# Altium footprint library SON.PcbLib: 1 footprints
Each footprint in its own frame and in the unit in brackets; x right, y up, seen from the top. Pads: shape width x height; smd on the part's side, far side on the other; paste and mask are expansions set on the pad; w line width, h text height; cw(c..) or ccw(c..) is an arc to the next point about the centre after c.
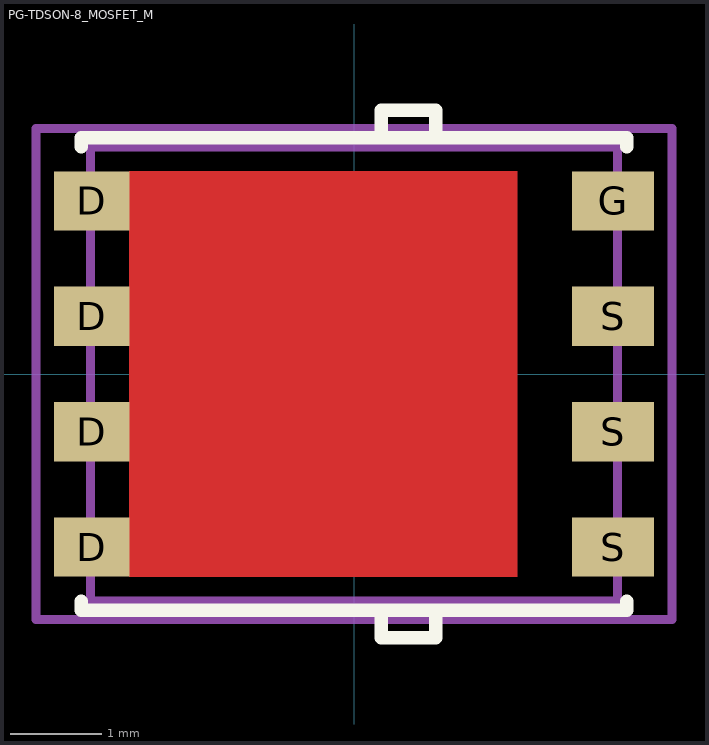
[diagram p0: the footprint, top view; thin cyan lines are the x and y axes]

## PG-TDSON-8_MOSFET_M [mm] "PG-TDSON, MOSFET terminals, 8-Leads, Body 5x5.8mm, Pitch 1.27mm, IPC Low Density"
height 1.1
pads (8):
  rect 0.83x0.65 smd: D(-2.885,-1.905) D(-2.885,-0.635) D(-2.885,0.635) D(-2.885,1.905)
  rect 0.9x0.65 smd: G(2.85,1.905) S(2.85,-1.905) S(2.85,-0.635) S(2.85,0.635)
Top Layer:
  region: 1.798,2.23 -2.472,2.23 -2.472,-2.23 1.798,-2.23
Top Overlay:
  lines w0.15: -3,-2.5 -3,-2.6 3,-2.6 3,-2.5 ; -3,2.5 -3,2.6 3,2.6 3,2.5 ; 0.3,-2.6 0.3,-2.9 0.9,-2.9 0.9,-2.6 ; 0.3,2.6 0.3,2.9 0.9,2.9 0.9,2.6
Top Paste:
  rectangle: 0.18,-1.88 1.415,-0.31
  rectangle: 0.18,0.31 1.415,1.88
  rectangle: -1.905,-1.88 -0.32,-0.31
  rectangle: -1.905,0.31 -0.32,1.88
Mechanical 13:
  lines w0.1: -2.9,-2.5 2.9,-2.5 2.9,2.5 -2.9,2.5 -2.9,-2.5
Mechanical 15:
  lines w0.1: -1,0 1,0 ; 0,-1 0,1 ; -3.5,-2.7 -3.5,2.7 3.5,2.7 3.5,-2.7 -3.5,-2.7
3D body: height 1.1, standoff 0, extent -2.9,-2.5 2.9,2.5